# Altium footprint library Footprint.PcbLib: 122 footprints (part 2 of 8)
Each footprint in its own frame and in the unit in brackets; x right, y up, seen from the top. Pads: shape width x height; smd on the part's side, far side on the other; paste and mask are expansions set on the pad; w line width, h text height; cw(c..) or ccw(c..) is an arc to the next point about the centre after c.
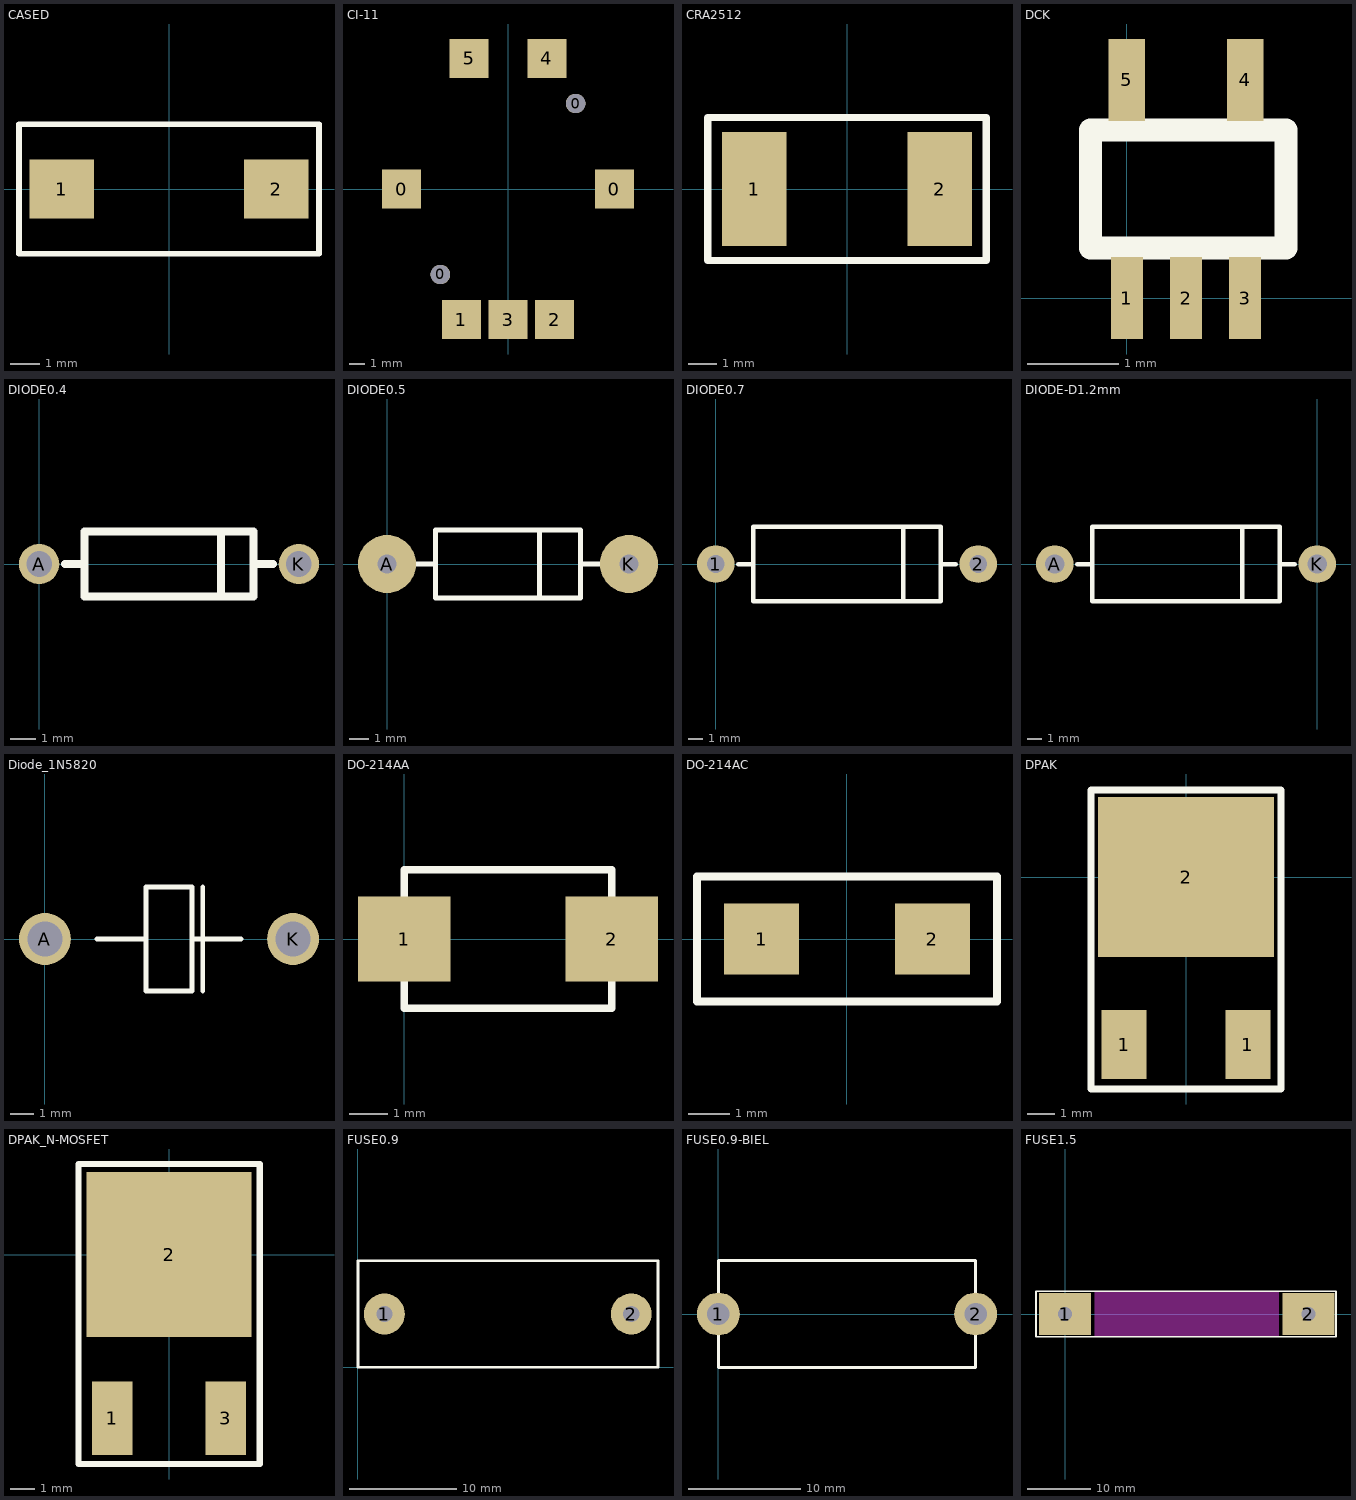
[diagram p1: the footprints below, top view; thin cyan lines are the x and y axes]

## CASED [mm]
pads (2):
  rect 2.2x2 smd: 1(-3.65,0) 2(3.65,0)
TopOverlay:
  lines w0.2: -5.1,-2.2 -5.1,0 -5.1,2.2 5.1,2.2 5.1,-2.2 -5.1,-2.2

## CI-11 [mm]
pads (9):
  rect 2.5x2.5 smd: 0(-6.85,0) 0(6.85,0) 1(-3,-8.4) 2(3,-8.4) 3(0,-8.4) 4(2.5,8.4) 5(-2.5,8.4)
  round 1.25 hole 1.25: 0(-4.35,-5.5) 0(4.35,5.5)

## CRA2512 [mil]
pads (2):
  rect 90x160 smd: 1(-130,0) 2(130,0)
TopOverlay:
  lines w10: -195,-100 -195,0 -195,100 195,100 195,-100 -195,-100

## DCK [mm]
height 1.1
pads (5):
  rect 0.35x0.9 smd: 1(0,0) 2(0.65,0) 3(1.3,0)
  rect 0.4x0.9 smd: 4(1.3,2.4) 5(0,2.4)
TopOverlay:
  lines w0.254: -0.4,0.55 -0.4,1.85 1.75,1.85 1.75,0.55 -0.4,0.55

## DIODE0.4 [mil]
pads (2):
  round 62 hole 39.37: A(0,0) K(400,0)
TopOverlay:
  lines w12: 40,0 70,0 ; 280,-50 280,50 ; 330,0 360,0 ; 70,-50 330,-50 330,50 70,50 70,-50

## DIODE0.5 [mil]
pads (2):
  round 120 hole 40: A(0,0) K(500,0)
TopOverlay:
  lines w10: 35,0 100,0 ; 315,-70 315,70 ; 400,0 465,0 ; 100,0 100,70 400,70 400,-70 100,-70 100,0

## DIODE0.7 [mm]
pads (2):
  round 2.54 hole 1.2: 1(0,0) 2(17.78,0)
TopOverlay:
  lines w0.305: 1.524,0 2.54,0 ; 12.7,-2.54 12.7,2.54 ; 15.24,0 16.256,0 ; 2.54,-2.54 15.24,-2.54 15.24,2.54 2.54,2.54 2.54,-2.54

## DIODE-D1.2mm [mm]
pads (2):
  round 2.54 hole 1.3: A(-17.78,0) K(0,0)
TopOverlay:
  lines w0.305: -16.256,0 -15.24,0 ; -5.08,-2.54 -5.08,2.54 ; -2.54,0 -1.524,0 ; -15.24,-2.54 -2.54,-2.54 -2.54,2.54 -15.24,2.54 -15.24,-2.54

## Diode_1N5820 [mm]
pads (2):
  round 2.2 hole 1.5: A(0,0) K(10.5,0)
TopOverlay:
  lines w0.2: 2.2,0 4.275,0 ; 6.225,0 8.3,0 ; 6.675,-2.2 6.675,2.2 ; 4.275,0 4.275,-2.2 6.225,-2.2 6.225,2.2 4.275,2.2 4.275,0

## DO-214AA [mm]
pads (2):
  rect 2.4x2.2 smd: 1(0,0) 2(5.4,0)
TopOverlay:
  lines w0.2: 0,-1.8 5.4,-1.8 5.4,1.8 0,1.8 0,-1.8

## DO-214AC [mm]
pads (2):
  rect 1.8x1.7 smd: 1(-2.05,0) 2(2.05,0)
TopOverlay:
  lines w0.2: -3.6,-1.5 3.6,-1.5 3.6,1.5 -3.6,1.5 -3.6,0 -3.6,-1.5

## DPAK [mm]
pads (3):
  rect 1.65x2.54 smd: 1(-2.28,-6.17) 1(2.28,-6.17)
  rect 6.48x5.9 smd: 2(0,0)
TopOverlay:
  lines w0.254: -3.5,-7.8 3.5,-7.8 3.5,3.2 -3.5,3.2 -3.5,-7.8

## DPAK_N-MOSFET [mm] "STD12NF06L"
height 2
pads (3):
  rect 1.65x3 smd: 1(-2.3,-6.65) 3(2.3,-6.65)
  rect 6.7x6.7 smd: 2(0,0)
TopOverlay:
  lines w0.254: -3.683,-8.509 -3.683,3.683 3.683,3.683 3.683,-8.509 -3.683,-8.509

## FUSE0.9 [mil]
pads (2):
  round 150 hole 60: 1(97,195) 2(1002,195)
TopOverlay:
  lines w10: 0,0 0,390 1100,390 1100,0 0,0

## FUSE0.9-BIEL [mm]
pads (2):
  round 3.81 hole 2: 1(0,0) 2(22.86,0)
TopOverlay:
  lines w0.254: 0,-4.75 0,4.75 22.86,4.75 22.86,-4.75 0,-4.75

## FUSE1.5 [mil]
pads (2):
  rect 320x260 hole 87: 1(0,0) 2(1500,0)
TopOverlay:
  lines w10: -180,-140 1500,-140 1670,-140 1670,0 1670,140 1500,140 -180,140 -180,-140
KeepOutLayer:
  rectangle: 180,-140 1320,140